# Altium integrated library Silicon Labs Isolation and Power.IntLib: 421 symbols (part 16 of 19)
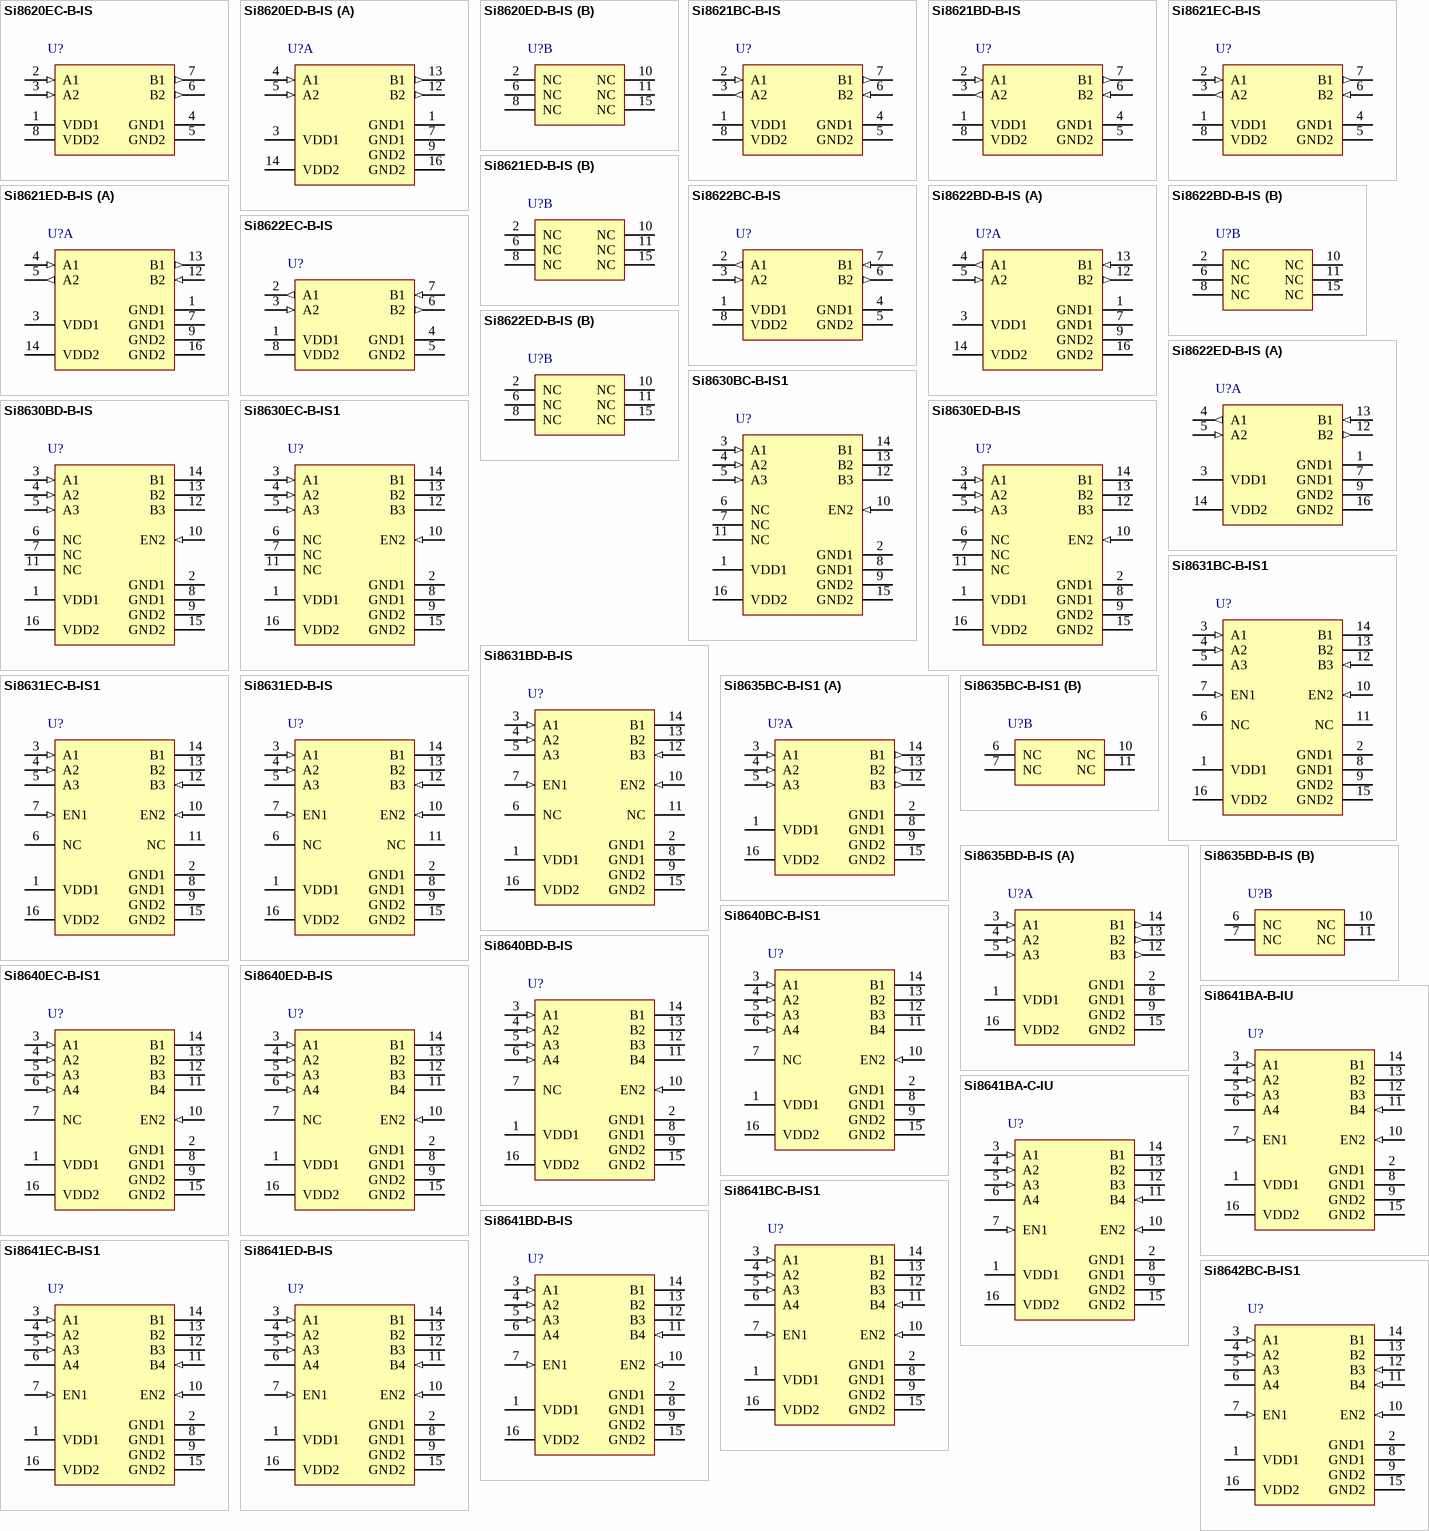
[diagram p29: symbols Si8620EC-B-IS to Si8642BC-B-IS1]

## Si8631BC-B-IS1
designator U?
Low-Power Triple-Channel Digital Isolator, 150 Mbps, 3.75 kVRMS Isolation Rating, -40 to 125 degC, 16-pin SOIC; Manufacturer: Silicon Labs; PartNumber: Si8631BC-B-IS1; 10kV surge: FALSE; AEC-Q100: TRUE; Channel Type: Unidirectional; Isolation Rating (kV): 3.75; Maximum Data Rate (Mbps): 150; Maximum Propagation Delay (ns): 13; Sub-Family: Isolators; DatasheetVersion: Rev. 1.3; PackageReference: SOIC-16-NB; PackageDescription: 16-Pin Small-Outline Integrated Circuit, Body 9.9 x 3.9 mm, Pitch 1.27 mm; Supplier 1: Digi-Key; Supplier Part Number 1: 336-2076-5-ND; Supplier 2: Mouser; Supplier Part Number 2: 634-SI8631BC-B-IS1; Enable Control: TRUE; Mounting Technology: Surface Mount; Code_JEDEC: MS-012; Code_IPC: J-STD-020; ComponentLink1Description: Manufacturer URL; ComponentLink1URL: http://www.silabs.com/; ComponentLink2Description: Datasheet; ComponentLink2URL: http://www.silabs.com/Support%20Documents/TechnicalDocs/Si863x.pdf; ComponentLink3Description: Package Specification; ComponentLink3URL: http://www.silabs.com/Support%20Documents/TechnicalDocs/si2401.pdf
footprint SLAB-SOIC-16-NB_N (SOIC, 16-Leads, Body 9.9x3.9mm, Pitch 1.27mm, IPC Medium Density)
footprint SLAB-SOIC-16-NB_L (SOIC, 16-Leads, Body 9.9x3.9mm, Pitch 1.27mm, IPC High Density)
footprint SLAB-SOIC-16-NB_M (SOIC, 16-Leads, Body 9.9x3.9mm, Pitch 1.27mm, IPC Low Density)
pins: 1 VDD1 (power) "Side 1 power supply.", 2 GND1 (power) "Side 1 ground.", 3 A1 (in) "Side 1 digital input.", 4 A2 (in) "Side 1 digital input.", 5 A3 (hiz) "Side 1 digital output.", 6 NC "No Connect.", 7 EN1 (in) "Side 1 active high enable", 8 GND1 (power) "Side 1 ground.", 9 GND2 (power) "Side 2 ground.", 10 EN2 (in) "Side 2 active high enable.", 11 NC "No Connect.", 12 B3 (in) "Side 2 digital input.", 13 B2 (hiz) "Side 2 digital output.", 14 B1 (hiz) "Side 2 digital output.", 15 GND2 (power) "Side 2 ground.", 16 VDD2 (power) "Side 2 power supply."

## Si8631BD-B-IS
designator U?
Low-Power Triple-Channel Digital Isolator, 150 Mbps, 5 kVRMS Isolation Rating, -40 to 125 degC, 16-pin SOIC; Manufacturer: Silicon Labs; PartNumber: Si8631BD-B-IS; 10kV surge: FALSE; AEC-Q100: TRUE; Channel Type: Unidirectional; Isolation Rating (kV): 5; Maximum Data Rate (Mbps): 150; Maximum Propagation Delay (ns): 13; Sub-Family: Isolators; DatasheetVersion: Rev. 1.3; PackageReference: SOIC-16-WB; PackageDescription: 16-Pin Wide Body Plastic Small Outline, Body 10.3 x 7.5 mm, Pitch 1.27 mm; Supplier 1: Digi-Key; Supplier Part Number 1: 336-2077-5-ND; Supplier 2: Mouser; Supplier Part Number 2: 634-SI8631BD-B-IS; Enable Control: TRUE; Mounting Technology: Surface Mount; Code_JEDEC: MS-013; ComponentLink1Description: Manufacturer URL; ComponentLink1URL: http://www.silabs.com/; ComponentLink2Description: Datasheet; ComponentLink2URL: http://www.silabs.com/Support%20Documents/TechnicalDocs/Si863x.pdf; ComponentLink3Description: Package Specification; ComponentLink3URL: https://www.silabs.com/Support%20Documents/TechnicalDocs/Si823x.pdf
footprint SLAB-SOIC-16-WB_N (SOIC, 16-Leads, Body 10.3x7.5mm, Pitch 1.27mm, IPC Medium Density)
footprint SLAB-SOIC-16-WB_L (SOIC, 16-Leads, Body 10.3x7.5mm, Pitch 1.27mm, IPC High Density)
footprint SLAB-SOIC-16-WB_M (SOIC, 16-Leads, Body 10.3x7.5mm, Pitch 1.27mm, IPC Low Density)
pins: 1 VDD1 (power) "Side 1 power supply.", 2 GND1 (power) "Side 1 ground.", 3 A1 (in) "Side 1 digital input.", 4 A2 (in) "Side 1 digital input.", 5 A3 (hiz) "Side 1 digital output.", 6 NC "No Connect.", 7 EN1 (in) "Side 1 active high enable", 8 GND1 (power) "Side 1 ground.", 9 GND2 (power) "Side 2 ground.", 10 EN2 (in) "Side 2 active high enable.", 11 NC "No Connect.", 12 B3 (in) "Side 2 digital input.", 13 B2 (hiz) "Side 2 digital output.", 14 B1 (hiz) "Side 2 digital output.", 15 GND2 (power) "Side 2 ground.", 16 VDD2 (power) "Side 2 power supply."

## Si8631EC-B-IS1
designator U?
Low-Power Triple-Channel Digital Isolator, 150 Mbps, 3.75 kVRMS Isolation Rating, -40 to 125 degC, 16-pin SOIC; Manufacturer: Silicon Labs; PartNumber: Si8631EC-B-IS1; 10kV surge: FALSE; AEC-Q100: TRUE; Channel Type: Unidirectional; Isolation Rating (kV): 3.75; Maximum Data Rate (Mbps): 150; Maximum Propagation Delay (ns): 13; Sub-Family: Isolators; DatasheetVersion: Rev. 1.3; PackageReference: SOIC-16-NB; PackageDescription: 16-Pin Small-Outline Integrated Circuit, Body 9.9 x 3.9 mm, Pitch 1.27 mm; Supplier 1: Digi-Key; Supplier Part Number 1: 336-2078-5-ND; Supplier 2: Mouser; Supplier Part Number 2: 634-SI8631EC-B-IS1; Enable Control: TRUE; Mounting Technology: Surface Mount; Code_JEDEC: MS-012; Code_IPC: J-STD-020; ComponentLink1Description: Manufacturer URL; ComponentLink1URL: http://www.silabs.com/; ComponentLink2Description: Datasheet; ComponentLink2URL: http://www.silabs.com/Support%20Documents/TechnicalDocs/Si863x.pdf; ComponentLink3Description: Package Specification; ComponentLink3URL: http://www.silabs.com/Support%20Documents/TechnicalDocs/si2401.pdf
footprint SLAB-SOIC-16-NB_N (SOIC, 16-Leads, Body 9.9x3.9mm, Pitch 1.27mm, IPC Medium Density)
footprint SLAB-SOIC-16-NB_L (SOIC, 16-Leads, Body 9.9x3.9mm, Pitch 1.27mm, IPC High Density)
footprint SLAB-SOIC-16-NB_M (SOIC, 16-Leads, Body 9.9x3.9mm, Pitch 1.27mm, IPC Low Density)
pins: 1 VDD1 (power) "Side 1 power supply.", 2 GND1 (power) "Side 1 ground.", 3 A1 (in) "Side 1 digital input.", 4 A2 (in) "Side 1 digital input.", 5 A3 (hiz) "Side 1 digital output.", 6 NC "No Connect.", 7 EN1 (in) "Side 1 active high enable", 8 GND1 (power) "Side 1 ground.", 9 GND2 (power) "Side 2 ground.", 10 EN2 (in) "Side 2 active high enable.", 11 NC "No Connect.", 12 B3 (in) "Side 2 digital input.", 13 B2 (hiz) "Side 2 digital output.", 14 B1 (hiz) "Side 2 digital output.", 15 GND2 (power) "Side 2 ground.", 16 VDD2 (power) "Side 2 power supply."

## Si8631ED-B-IS
designator U?
Low-Power Triple-Channel Digital Isolator, 150 Mbps, 5 kVRMS Isolation Rating, -40 to 125 degC, 16-pin SOIC; Manufacturer: Silicon Labs; PartNumber: Si8631ED-B-IS; 10kV surge: FALSE; AEC-Q100: TRUE; Channel Type: Unidirectional; Isolation Rating (kV): 5; Maximum Data Rate (Mbps): 150; Maximum Propagation Delay (ns): 13; Sub-Family: Isolators; DatasheetVersion: Rev. 1.3; PackageReference: SOIC-16-WB; PackageDescription: 16-Pin Wide Body Plastic Small Outline, Body 10.3 x 7.5 mm, Pitch 1.27 mm; Supplier 1: Digi-Key; Supplier Part Number 1: 336-2079-5-ND; Supplier 2: Mouser; Supplier Part Number 2: 634-SI8631ED-B-IS; Enable Control: TRUE; Mounting Technology: Surface Mount; Code_JEDEC: MS-013; ComponentLink1Description: Manufacturer URL; ComponentLink1URL: http://www.silabs.com/; ComponentLink2Description: Datasheet; ComponentLink2URL: http://www.silabs.com/Support%20Documents/TechnicalDocs/Si863x.pdf; ComponentLink3Description: Package Specification; ComponentLink3URL: https://www.silabs.com/Support%20Documents/TechnicalDocs/Si823x.pdf
footprint SLAB-SOIC-16-WB_N (SOIC, 16-Leads, Body 10.3x7.5mm, Pitch 1.27mm, IPC Medium Density)
footprint SLAB-SOIC-16-WB_L (SOIC, 16-Leads, Body 10.3x7.5mm, Pitch 1.27mm, IPC High Density)
footprint SLAB-SOIC-16-WB_M (SOIC, 16-Leads, Body 10.3x7.5mm, Pitch 1.27mm, IPC Low Density)
pins: 1 VDD1 (power) "Side 1 power supply.", 2 GND1 (power) "Side 1 ground.", 3 A1 (in) "Side 1 digital input.", 4 A2 (in) "Side 1 digital input.", 5 A3 (hiz) "Side 1 digital output.", 6 NC "No Connect.", 7 EN1 (in) "Side 1 active high enable", 8 GND1 (power) "Side 1 ground.", 9 GND2 (power) "Side 2 ground.", 10 EN2 (in) "Side 2 active high enable.", 11 NC "No Connect.", 12 B3 (in) "Side 2 digital input.", 13 B2 (hiz) "Side 2 digital output.", 14 B1 (hiz) "Side 2 digital output.", 15 GND2 (power) "Side 2 ground.", 16 VDD2 (power) "Side 2 power supply."

## Si8635BC-B-IS1
designator U?
Low-Power Triple-Channel Digital Isolator, 150 Mbps, 3.75 kVRMS Isolation Rating, -40 to 125 degC, 16-pin SOIC; Manufacturer: Silicon Labs; PartNumber: Si8635BC-B-IS1; 10kV surge: FALSE; AEC-Q100: TRUE; Channel Type: Unidirectional; Isolation Rating (kV): 3.75; Maximum Data Rate (Mbps): 150; Maximum Propagation Delay (ns): 13; Sub-Family: Isolators; DatasheetVersion: Rev. 1.3; PackageReference: SOIC-16-NB; PackageDescription: 16-Pin Small-Outline Integrated Circuit, Body 9.9 x 3.9 mm, Pitch 1.27 mm; Supplier 1: Digi-Key; Supplier Part Number 1: 336-2080-5-ND; Supplier 2: Mouser; Supplier Part Number 2: 634-SI8635BC-B-IS1; Enable Control: TRUE; Mounting Technology: Surface Mount; Code_JEDEC: MS-012; Code_IPC: J-STD-020; ComponentLink1Description: Manufacturer URL; ComponentLink1URL: http://www.silabs.com/; ComponentLink2Description: Datasheet; ComponentLink2URL: http://www.silabs.com/Support%20Documents/TechnicalDocs/Si863x.pdf; ComponentLink3Description: Package Specification; ComponentLink3URL: http://www.silabs.com/Support%20Documents/TechnicalDocs/si2401.pdf
footprint SLAB-SOIC-16-NB_N (SOIC, 16-Leads, Body 9.9x3.9mm, Pitch 1.27mm, IPC Medium Density)
footprint SLAB-SOIC-16-NB_L (SOIC, 16-Leads, Body 9.9x3.9mm, Pitch 1.27mm, IPC High Density)
footprint SLAB-SOIC-16-NB_M (SOIC, 16-Leads, Body 9.9x3.9mm, Pitch 1.27mm, IPC Low Density)
part A pins: 1 VDD1 (power) "Side 1 power supply.", 2 GND1 (power) "Side 1 ground.", 3 A1 (in) "Side 1 digital input.", 4 A2 (in) "Side 1 digital input.", 5 A3 (in) "Side 1 digital input.", 8 GND1 (power) "Side 1 ground.", 9 GND2 (power) "Side 2 ground.", 12 B3 (out) "Side 2 digital output.", 13 B2 (out) "Side 2 digital output.", 14 B1 (out) "Side 2 digital output.", 15 GND2 (power) "Side 2 ground.", 16 VDD2 (power) "Side 2 power supply."
part B pins: 6 NC "No Connect.", 7 NC "No Connect.", 10 NC "No Connect.", 11 NC "No Connect."

## Si8635BD-B-IS
designator U?
Low-Power Triple-Channel Digital Isolator, 150 Mbps, 5 kVRMS Isolation Rating, -40 to 125 degC, 16-pin SOIC; Manufacturer: Silicon Labs; PartNumber: Si8635BD-B-IS; 10kV surge: FALSE; AEC-Q100: TRUE; Channel Type: Unidirectional; Isolation Rating (kV): 5; Maximum Data Rate (Mbps): 150; Maximum Propagation Delay (ns): 13; Sub-Family: Isolators; DatasheetVersion: Rev. 1.3; PackageReference: SOIC-16-WB; PackageDescription: 16-Pin Wide Body Plastic Small Outline, Body 10.3 x 7.5 mm, Pitch 1.27 mm; Supplier 1: Digi-Key; Supplier Part Number 1: 336-2081-5-ND; Supplier 2: Mouser; Supplier Part Number 2: 634-SI8635BD-B-IS; Enable Control: TRUE; Mounting Technology: Surface Mount; Code_JEDEC: MS-013; ComponentLink1Description: Manufacturer URL; ComponentLink1URL: http://www.silabs.com/; ComponentLink2Description: Datasheet; ComponentLink2URL: http://www.silabs.com/Support%20Documents/TechnicalDocs/Si863x.pdf; ComponentLink3Description: Package Specification; ComponentLink3URL: https://www.silabs.com/Support%20Documents/TechnicalDocs/Si823x.pdf
footprint SLAB-SOIC-16-WB_N (SOIC, 16-Leads, Body 10.3x7.5mm, Pitch 1.27mm, IPC Medium Density)
footprint SLAB-SOIC-16-WB_L (SOIC, 16-Leads, Body 10.3x7.5mm, Pitch 1.27mm, IPC High Density)
footprint SLAB-SOIC-16-WB_M (SOIC, 16-Leads, Body 10.3x7.5mm, Pitch 1.27mm, IPC Low Density)
part A pins: 1 VDD1 (power) "Side 1 power supply.", 2 GND1 (power) "Side 1 ground.", 3 A1 (in) "Side 1 digital input.", 4 A2 (in) "Side 1 digital input.", 5 A3 (in) "Side 1 digital input.", 8 GND1 (power) "Side 1 ground.", 9 GND2 (power) "Side 2 ground.", 12 B3 (out) "Side 2 digital output.", 13 B2 (out) "Side 2 digital output.", 14 B1 (out) "Side 2 digital output.", 15 GND2 (power) "Side 2 ground.", 16 VDD2 (power) "Side 2 power supply."
part B pins: 6 NC "No Connect.", 7 NC "No Connect.", 10 NC "No Connect.", 11 NC "No Connect."

## Si8640BC-B-IS1
designator U?
Low-Power Quad-Channel Digital Isolator, 150 Mbps, 3.75 kVRMS Isolation Rating, -40 to 125 degC, 16-pin SOIC; Manufacturer: Silicon Labs; PartNumber: Si8640BC-B-IS1; 10kV surge: FALSE; Channel Type: Unidirectional; Enable Control: TRUE; Isolation Rating (kV): 3.75; Maximum Data Rate (Mbps): 150; Maximum Propagation Delay (ns): 13; Sub-Family: Isolators; DatasheetVersion: Rev. 1.5; PackageReference: SOIC-16-NB; PackageDescription: 16-Pin Small-Outline Integrated Circuit, Body 9.9 x 3.9 mm, Pitch 1.27 mm; Supplier 1: Digi-Key; Supplier Part Number 1: 336-2082-5-ND; Supplier 2: Mouser; Supplier Part Number 2: 634-SI8640BC-B-IS1; AEC-Q100: FALSE; Mounting Technology: Surface Mount; Code_JEDEC: MS-012; Code_IPC: J-STD-020; ComponentLink1Description: Manufacturer URL; ComponentLink1URL: http://www.silabs.com/; ComponentLink2Description: Datasheet; ComponentLink2URL: http://www.silabs.com/Support%20Documents/TechnicalDocs/Si864x.pdf; ComponentLink3Description: Package Specification; ComponentLink3URL: http://www.silabs.com/Support%20Documents/TechnicalDocs/si2401.pdf
footprint SLAB-SOIC-16-NB_N (SOIC, 16-Leads, Body 9.9x3.9mm, Pitch 1.27mm, IPC Medium Density)
footprint SLAB-SOIC-16-NB_L (SOIC, 16-Leads, Body 9.9x3.9mm, Pitch 1.27mm, IPC High Density)
footprint SLAB-SOIC-16-NB_M (SOIC, 16-Leads, Body 9.9x3.9mm, Pitch 1.27mm, IPC Low Density)
pins: 1 VDD1 (power) "Side 1 power supply.", 2 GND1 (power) "Side 1 ground.", 3 A1 (in) "Side 1 digital input.", 4 A2 (in) "Side 1 digital input.", 5 A3 (in) "Side 1 digital input.", 6 A4 (in) "Side 1 digital input.", 7 NC, 8 GND1 (power) "Side 1 ground.", 9 GND2 (power) "Side 2 ground.", 10 EN2 (in) "Side 2 active high enable.", 11 B4 (hiz) "Side 2 digital output.", 12 B3 (hiz) "Side 2 digital output.", 13 B2 (hiz) "Side 2 digital output.", 14 B1 (hiz) "Side 2 digital output.", 15 GND2 (power) "Side 2 ground.", 16 VDD2 (power) "Side 2 power supply."

## Si8640BD-B-IS
designator U?
Low-Power Quad-Channel Digital Isolator, 150 Mbps, 5 kVRMS Isolation Rating, -40 to 125 degC, 16-pin SOIC; Manufacturer: Silicon Labs; PartNumber: Si8640BD-B-IS; 10kV surge: FALSE; Channel Type: Unidirectional; Enable Control: TRUE; Isolation Rating (kV): 5; Maximum Data Rate (Mbps): 150; Maximum Propagation Delay (ns): 13; Sub-Family: Isolators; DatasheetVersion: Rev. 1.5; PackageReference: SOIC-16-WB; PackageDescription: 16-Pin Wide Body Plastic Small Outline, Body 10.3 x 7.5 mm, Pitch 1.27 mm; Supplier 1: Digi-Key; Supplier Part Number 1: 336-2083-5-ND; Supplier 2: Mouser; Supplier Part Number 2: 634-SI8640BD-B-IS; AEC-Q100: FALSE; Mounting Technology: Surface Mount; Code_JEDEC: MS-013; ComponentLink1Description: Manufacturer URL; ComponentLink1URL: http://www.silabs.com/; ComponentLink2Description: Datasheet; ComponentLink2URL: http://www.silabs.com/Support%20Documents/TechnicalDocs/Si864x.pdf; ComponentLink3Description: Package Specification; ComponentLink3URL: https://www.silabs.com/Support%20Documents/TechnicalDocs/Si823x.pdf
footprint SLAB-SOIC-16-WB_N (SOIC, 16-Leads, Body 10.3x7.5mm, Pitch 1.27mm, IPC Medium Density)
footprint SLAB-SOIC-16-WB_L (SOIC, 16-Leads, Body 10.3x7.5mm, Pitch 1.27mm, IPC High Density)
footprint SLAB-SOIC-16-WB_M (SOIC, 16-Leads, Body 10.3x7.5mm, Pitch 1.27mm, IPC Low Density)
pins: 1 VDD1 (power) "Side 1 power supply.", 2 GND1 (power) "Side 1 ground.", 3 A1 (in) "Side 1 digital input.", 4 A2 (in) "Side 1 digital input.", 5 A3 (in) "Side 1 digital input.", 6 A4 (in) "Side 1 digital input.", 7 NC, 8 GND1 (power) "Side 1 ground.", 9 GND2 (power) "Side 2 ground.", 10 EN2 (in) "Side 2 active high enable.", 11 B4 (hiz) "Side 2 digital output.", 12 B3 (hiz) "Side 2 digital output.", 13 B2 (hiz) "Side 2 digital output.", 14 B1 (hiz) "Side 2 digital output.", 15 GND2 (power) "Side 2 ground.", 16 VDD2 (power) "Side 2 power supply."

## Si8640EC-B-IS1
designator U?
Low-Power Quad-Channel Digital Isolator, 150 Mbps, 3.75 kVRMS Isolation Rating, -40 to 125 degC, 16-pin SOIC; Manufacturer: Silicon Labs; PartNumber: Si8640EC-B-IS1; 10kV surge: FALSE; AEC-Q100: TRUE; Channel Type: Unidirectional; Isolation Rating (kV): 3.75; Maximum Data Rate (Mbps): 150; Maximum Propagation Delay (ns): 13; Sub-Family: Isolators; DatasheetVersion: Rev. 1.5; PackageReference: SOIC-16-NB; PackageDescription: 16-Pin Small-Outline Integrated Circuit, Body 9.9 x 3.9 mm, Pitch 1.27 mm; Supplier 1: Digi-Key; Supplier Part Number 1: 336-2084-5-ND; Supplier 2: Mouser; Supplier Part Number 2: 634-SI8640EC-B-IS1; Enable Control: TRUE; Mounting Technology: Surface Mount; Code_JEDEC: MS-012; Code_IPC: J-STD-020; ComponentLink1Description: Manufacturer URL; ComponentLink1URL: http://www.silabs.com/; ComponentLink2Description: Datasheet; ComponentLink2URL: http://www.silabs.com/Support%20Documents/TechnicalDocs/Si864x.pdf; ComponentLink3Description: Package Specification; ComponentLink3URL: http://www.silabs.com/Support%20Documents/TechnicalDocs/si2401.pdf
footprint SLAB-SOIC-16-NB_N (SOIC, 16-Leads, Body 9.9x3.9mm, Pitch 1.27mm, IPC Medium Density)
footprint SLAB-SOIC-16-NB_L (SOIC, 16-Leads, Body 9.9x3.9mm, Pitch 1.27mm, IPC High Density)
footprint SLAB-SOIC-16-NB_M (SOIC, 16-Leads, Body 9.9x3.9mm, Pitch 1.27mm, IPC Low Density)
pins: 1 VDD1 (power) "Side 1 power supply.", 2 GND1 (power) "Side 1 ground.", 3 A1 (in) "Side 1 digital input.", 4 A2 (in) "Side 1 digital input.", 5 A3 (in) "Side 1 digital input.", 6 A4 (in) "Side 1 digital input.", 7 NC, 8 GND1 (power) "Side 1 ground.", 9 GND2 (power) "Side 2 ground.", 10 EN2 (in) "Side 2 active high enable.", 11 B4 (hiz) "Side 2 digital output.", 12 B3 (hiz) "Side 2 digital output.", 13 B2 (hiz) "Side 2 digital output.", 14 B1 (hiz) "Side 2 digital output.", 15 GND2 (power) "Side 2 ground.", 16 VDD2 (power) "Side 2 power supply."

## Si8640ED-B-IS
designator U?
Low-Power Quad-Channel Digital Isolator, 150 Mbps, 5 kVRMS Isolation Rating, -40 to 125 degC, 16-pin SOIC; Manufacturer: Silicon Labs; PartNumber: Si8640ED-B-IS; 10kV surge: FALSE; AEC-Q100: TRUE; Channel Type: Unidirectional; Isolation Rating (kV): 5; Maximum Data Rate (Mbps): 150; Maximum Propagation Delay (ns): 13; Sub-Family: Isolators; DatasheetVersion: Rev. 1.5; PackageReference: SOIC-16-WB; PackageDescription: 16-Pin Wide Body Plastic Small Outline, Body 10.3 x 7.5 mm, Pitch 1.27 mm; Supplier 1: Digi-Key; Supplier Part Number 1: 336-2085-5-ND; Supplier 2: Mouser; Supplier Part Number 2: 634-SI8640ED-B-IS; Enable Control: TRUE; Mounting Technology: Surface Mount; Code_JEDEC: MS-013; ComponentLink1Description: Manufacturer URL; ComponentLink1URL: http://www.silabs.com/; ComponentLink2Description: Datasheet; ComponentLink2URL: http://www.silabs.com/Support%20Documents/TechnicalDocs/Si864x.pdf; ComponentLink3Description: Package Specification; ComponentLink3URL: https://www.silabs.com/Support%20Documents/TechnicalDocs/Si823x.pdf
footprint SLAB-SOIC-16-WB_N (SOIC, 16-Leads, Body 10.3x7.5mm, Pitch 1.27mm, IPC Medium Density)
footprint SLAB-SOIC-16-WB_L (SOIC, 16-Leads, Body 10.3x7.5mm, Pitch 1.27mm, IPC High Density)
footprint SLAB-SOIC-16-WB_M (SOIC, 16-Leads, Body 10.3x7.5mm, Pitch 1.27mm, IPC Low Density)
pins: 1 VDD1 (power) "Side 1 power supply.", 2 GND1 (power) "Side 1 ground.", 3 A1 (in) "Side 1 digital input.", 4 A2 (in) "Side 1 digital input.", 5 A3 (in) "Side 1 digital input.", 6 A4 (in) "Side 1 digital input.", 7 NC, 8 GND1 (power) "Side 1 ground.", 9 GND2 (power) "Side 2 ground.", 10 EN2 (in) "Side 2 active high enable.", 11 B4 (hiz) "Side 2 digital output.", 12 B3 (hiz) "Side 2 digital output.", 13 B2 (hiz) "Side 2 digital output.", 14 B1 (hiz) "Side 2 digital output.", 15 GND2 (power) "Side 2 ground.", 16 VDD2 (power) "Side 2 power supply."

## Si8641BA-B-IU
designator U?
Low-Power Quad-Channel Digital Isolator, 150 Mbps, 1 kVRMS Isolation Rating, -40 to 125 degC, 16-pin SOP; Manufacturer: Silicon Labs; PartNumber: Si8641BA-B-IU; 10kV surge: FALSE; Channel Type: Unidirectional; Enable Control: TRUE; Isolation Rating (kV): 1; Maximum Data Rate (Mbps): 150; Maximum Propagation Delay (ns): 13; Sub-Family: Isolators; DatasheetVersion: Rev. 1.5; PackageReference: QSOP-16; PackageDescription: 16-Pin Quarter-Size Small Outline Package, Body 4.89 x 3.9 mm, Pitch 0.635 mm; Supplier 1: Digi-Key; Supplier Part Number 1: 336-2086-5-ND; Supplier 2: Mouser; Supplier Part Number 2: 634-SI8641BA-B-IU; AEC-Q100: FALSE; Mounting Technology: Surface Mount; Code_JEDEC: MO-137; Code_IPC: J-STD-020D; ComponentLink1Description: Manufacturer URL; ComponentLink1URL: http://www.silabs.com/; ComponentLink2Description: Datasheet; ComponentLink2URL: http://www.silabs.com/Support%20Documents/TechnicalDocs/Si864x.pdf; ComponentLink3Description: Package Specification; ComponentLink3URL: http://www.silabs.com/Support%20Documents/TechnicalDocs/Si864x.pdf
footprint SLAB-QSOP-16_N (SOP, 16-Leads, Body 4.9x3.9mm, Pitch 0.635mm, IPC Medium Density)
footprint SLAB-QSOP-16_L (SOP, 16-Leads, Body 4.9x3.9mm, Pitch 0.635mm, IPC High Density)
footprint SLAB-QSOP-16_M (SOP, 16-Leads, Body 4.9x3.9mm, Pitch 0.635mm, IPC Low Density)
pins: 1 VDD1 (power) "Side 1 power supply.", 2 GND1 (power) "Side 1 ground.", 3 A1 (in) "Side 1 digital input.", 4 A2 (in) "Side 1 digital input.", 5 A3 (in) "Side 1 digital input.", 6 A4 (hiz) "Side 1 digital output.", 7 EN1 (in) "Side 1 active high enable.", 8 GND1 (power) "Side 1 ground.", 9 GND2 (power) "Side 2 ground.", 10 EN2 (in) "Side 2 active high enable.", 11 B4 (in) "Side 2 digital input.", 12 B3 (hiz) "Side 2 digital output.", 13 B2 (hiz) "Side 2 digital output.", 14 B1 (hiz) "Side 2 digital output.", 15 GND2 (power) "Side 2 ground.", 16 VDD2 (power) "Side 2 power supply."

## Si8641BA-C-IU
designator U?
Low-Power Quad-Channel Digital Isolator, 150 Mbps, 1 kVRMS Isolation Rating, -40 to 125 degC, 16-pin SOP; Manufacturer: Silicon Labs; PartNumber: Si8641BA-C-IU; Note: 0; 10kV surge: FALSE; Channel Type: Unidirectional; Enable Control: TRUE; Isolation Rating (kV): 1; Maximum Data Rate (Mbps): 150; Maximum Propagation Delay (ns): 13; Sub-Family: Isolators; DatasheetVersion: Rev. 1.5; PackageReference: QSOP-16; PackageDescription: 16-Pin Quarter-Size Small Outline Package, Body 4.89 x 3.9 mm, Pitch 0.635 mm; AEC-Q100: FALSE; Mounting Technology: Surface Mount; Code_JEDEC: MO-137; Code_IPC: J-STD-020D; ComponentLink1Description: Manufacturer URL; ComponentLink1URL: http://www.silabs.com/; ComponentLink2Description: Datasheet; ComponentLink2URL: http://www.silabs.com/Support%20Documents/TechnicalDocs/Si864x.pdf; ComponentLink3Description: Package Specification; ComponentLink3URL: http://www.silabs.com/Support%20Documents/TechnicalDocs/Si864x.pdf
footprint SLAB-QSOP-16_N (SOP, 16-Leads, Body 4.9x3.9mm, Pitch 0.635mm, IPC Medium Density)
footprint SLAB-QSOP-16_L (SOP, 16-Leads, Body 4.9x3.9mm, Pitch 0.635mm, IPC High Density)
footprint SLAB-QSOP-16_M (SOP, 16-Leads, Body 4.9x3.9mm, Pitch 0.635mm, IPC Low Density)
pins: 1 VDD1 (power) "Side 1 power supply.", 2 GND1 (power) "Side 1 ground.", 3 A1 (in) "Side 1 digital input.", 4 A2 (in) "Side 1 digital input.", 5 A3 (in) "Side 1 digital input.", 6 A4 (hiz) "Side 1 digital output.", 7 EN1 (in) "Side 1 active high enable.", 8 GND1 (power) "Side 1 ground.", 9 GND2 (power) "Side 2 ground.", 10 EN2 (in) "Side 2 active high enable.", 11 B4 (in) "Side 2 digital input.", 12 B3 (hiz) "Side 2 digital output.", 13 B2 (hiz) "Side 2 digital output.", 14 B1 (hiz) "Side 2 digital output.", 15 GND2 (power) "Side 2 ground.", 16 VDD2 (power) "Side 2 power supply."

## Si8641BC-B-IS1
designator U?
Low-Power Quad-Channel Digital Isolator, 150 Mbps, 3.75 kVRMS Isolation Rating, -40 to 125 degC, 16-pin SOIC; Manufacturer: Silicon Labs; PartNumber: Si8641BC-B-IS1; 10kV surge: FALSE; Channel Type: Unidirectional; Enable Control: TRUE; Isolation Rating (kV): 3.75; Maximum Data Rate (Mbps): 150; Maximum Propagation Delay (ns): 13; Sub-Family: Isolators; DatasheetVersion: Rev. 1.5; PackageReference: SOIC-16-NB; PackageDescription: 16-Pin Small-Outline Integrated Circuit, Body 9.9 x 3.9 mm, Pitch 1.27 mm; Supplier 1: Digi-Key; Supplier Part Number 1: 336-2087-5-ND; Supplier 2: Mouser; Supplier Part Number 2: 634-SI8641BC-B-IS1; AEC-Q100: FALSE; Mounting Technology: Surface Mount; Code_JEDEC: MS-012; Code_IPC: J-STD-020; ComponentLink1Description: Manufacturer URL; ComponentLink1URL: http://www.silabs.com/; ComponentLink2Description: Datasheet; ComponentLink2URL: http://www.silabs.com/Support%20Documents/TechnicalDocs/Si864x.pdf; ComponentLink3Description: Package Specification; ComponentLink3URL: http://www.silabs.com/Support%20Documents/TechnicalDocs/si2401.pdf
footprint SLAB-SOIC-16-NB_N (SOIC, 16-Leads, Body 9.9x3.9mm, Pitch 1.27mm, IPC Medium Density)
footprint SLAB-SOIC-16-NB_L (SOIC, 16-Leads, Body 9.9x3.9mm, Pitch 1.27mm, IPC High Density)
footprint SLAB-SOIC-16-NB_M (SOIC, 16-Leads, Body 9.9x3.9mm, Pitch 1.27mm, IPC Low Density)
pins: 1 VDD1 (power) "Side 1 power supply.", 2 GND1 (power) "Side 1 ground.", 3 A1 (in) "Side 1 digital input.", 4 A2 (in) "Side 1 digital input.", 5 A3 (in) "Side 1 digital input.", 6 A4 (hiz) "Side 1 digital output.", 7 EN1 (in) "Side 1 active high enable.", 8 GND1 (power) "Side 1 ground.", 9 GND2 (power) "Side 2 ground.", 10 EN2 (in) "Side 2 active high enable.", 11 B4 (in) "Side 2 digital input.", 12 B3 (hiz) "Side 2 digital output.", 13 B2 (hiz) "Side 2 digital output.", 14 B1 (hiz) "Side 2 digital output.", 15 GND2 (power) "Side 2 ground.", 16 VDD2 (power) "Side 2 power supply."

## Si8641BD-B-IS
designator U?
Low-Power Quad-Channel Digital Isolator, 150 Mbps, 5 kVRMS Isolation Rating, -40 to 125 degC, 16-pin SOIC; Manufacturer: Silicon Labs; PartNumber: Si8641BD-B-IS; 10kV surge: FALSE; Channel Type: Unidirectional; Enable Control: TRUE; Isolation Rating (kV): 5; Maximum Data Rate (Mbps): 150; Maximum Propagation Delay (ns): 13; Sub-Family: Isolators; DatasheetVersion: Rev. 1.5; PackageReference: SOIC-16-WB; PackageDescription: 16-Pin Wide Body Plastic Small Outline, Body 10.3 x 7.5 mm, Pitch 1.27 mm; Supplier 1: Digi-Key; Supplier Part Number 1: 336-2088-5-ND; Supplier 2: Mouser; Supplier Part Number 2: 634-SI8641BD-B-IS; AEC-Q100: FALSE; Mounting Technology: Surface Mount; Code_JEDEC: MS-013; ComponentLink1Description: Manufacturer URL; ComponentLink1URL: http://www.silabs.com/; ComponentLink2Description: Datasheet; ComponentLink2URL: http://www.silabs.com/Support%20Documents/TechnicalDocs/Si864x.pdf; ComponentLink3Description: Package Specification; ComponentLink3URL: https://www.silabs.com/Support%20Documents/TechnicalDocs/Si823x.pdf
footprint SLAB-SOIC-16-WB_N (SOIC, 16-Leads, Body 10.3x7.5mm, Pitch 1.27mm, IPC Medium Density)
footprint SLAB-SOIC-16-WB_L (SOIC, 16-Leads, Body 10.3x7.5mm, Pitch 1.27mm, IPC High Density)
footprint SLAB-SOIC-16-WB_M (SOIC, 16-Leads, Body 10.3x7.5mm, Pitch 1.27mm, IPC Low Density)
pins: 1 VDD1 (power) "Side 1 power supply.", 2 GND1 (power) "Side 1 ground.", 3 A1 (in) "Side 1 digital input.", 4 A2 (in) "Side 1 digital input.", 5 A3 (in) "Side 1 digital input.", 6 A4 (hiz) "Side 1 digital output.", 7 EN1 (in) "Side 1 active high enable.", 8 GND1 (power) "Side 1 ground.", 9 GND2 (power) "Side 2 ground.", 10 EN2 (in) "Side 2 active high enable.", 11 B4 (in) "Side 2 digital input.", 12 B3 (hiz) "Side 2 digital output.", 13 B2 (hiz) "Side 2 digital output.", 14 B1 (hiz) "Side 2 digital output.", 15 GND2 (power) "Side 2 ground.", 16 VDD2 (power) "Side 2 power supply."

## Si8641EC-B-IS1
designator U?
Low-Power Quad-Channel Digital Isolator, 150 Mbps, 3.75 kVRMS Isolation Rating, -40 to 125 degC, 16-pin SOIC; Manufacturer: Silicon Labs; PartNumber: Si8641EC-B-IS1; 10kV surge: FALSE; AEC-Q100: TRUE; Channel Type: Unidirectional; Isolation Rating (kV): 3.75; Maximum Data Rate (Mbps): 150; Maximum Propagation Delay (ns): 13; Sub-Family: Isolators; DatasheetVersion: Rev. 1.5; PackageReference: SOIC-16-NB; PackageDescription: 16-Pin Small-Outline Integrated Circuit, Body 9.9 x 3.9 mm, Pitch 1.27 mm; Supplier 1: Digi-Key; Supplier Part Number 1: 336-2089-5-ND; Supplier 2: Mouser; Supplier Part Number 2: 634-SI8641EC-B-IS1; Enable Control: TRUE; Mounting Technology: Surface Mount; Code_JEDEC: MS-012; Code_IPC: J-STD-020; ComponentLink1Description: Manufacturer URL; ComponentLink1URL: http://www.silabs.com/; ComponentLink2Description: Datasheet; ComponentLink2URL: http://www.silabs.com/Support%20Documents/TechnicalDocs/Si864x.pdf; ComponentLink3Description: Package Specification; ComponentLink3URL: http://www.silabs.com/Support%20Documents/TechnicalDocs/si2401.pdf
footprint SLAB-SOIC-16-NB_N (SOIC, 16-Leads, Body 9.9x3.9mm, Pitch 1.27mm, IPC Medium Density)
footprint SLAB-SOIC-16-NB_L (SOIC, 16-Leads, Body 9.9x3.9mm, Pitch 1.27mm, IPC High Density)
footprint SLAB-SOIC-16-NB_M (SOIC, 16-Leads, Body 9.9x3.9mm, Pitch 1.27mm, IPC Low Density)
pins: 1 VDD1 (power) "Side 1 power supply.", 2 GND1 (power) "Side 1 ground.", 3 A1 (in) "Side 1 digital input.", 4 A2 (in) "Side 1 digital input.", 5 A3 (in) "Side 1 digital input.", 6 A4 (hiz) "Side 1 digital output.", 7 EN1 (in) "Side 1 active high enable.", 8 GND1 (power) "Side 1 ground.", 9 GND2 (power) "Side 2 ground.", 10 EN2 (in) "Side 2 active high enable.", 11 B4 (in) "Side 2 digital input.", 12 B3 (hiz) "Side 2 digital output.", 13 B2 (hiz) "Side 2 digital output.", 14 B1 (hiz) "Side 2 digital output.", 15 GND2 (power) "Side 2 ground.", 16 VDD2 (power) "Side 2 power supply."

## Si8641ED-B-IS
designator U?
Low-Power Quad-Channel Digital Isolator, 150 Mbps, 5 kVRMS Isolation Rating, -40 to 125 degC, 16-pin SOIC; Manufacturer: Silicon Labs; PartNumber: Si8641ED-B-IS; 10kV surge: FALSE; AEC-Q100: TRUE; Channel Type: Unidirectional; Isolation Rating (kV): 5; Maximum Data Rate (Mbps): 150; Maximum Propagation Delay (ns): 13; Sub-Family: Isolators; DatasheetVersion: Rev. 1.5; PackageReference: SOIC-16-WB; PackageDescription: 16-Pin Wide Body Plastic Small Outline, Body 10.3 x 7.5 mm, Pitch 1.27 mm; Supplier 1: Digi-Key; Supplier Part Number 1: 336-2090-5-ND; Supplier 2: Mouser; Supplier Part Number 2: 634-SI8641ED-B-IS; Enable Control: TRUE; Mounting Technology: Surface Mount; Code_JEDEC: MS-013; ComponentLink1Description: Manufacturer URL; ComponentLink1URL: http://www.silabs.com/; ComponentLink2Description: Datasheet; ComponentLink2URL: http://www.silabs.com/Support%20Documents/TechnicalDocs/Si864x.pdf; ComponentLink3Description: Package Specification; ComponentLink3URL: https://www.silabs.com/Support%20Documents/TechnicalDocs/Si823x.pdf
footprint SLAB-SOIC-16-WB_N (SOIC, 16-Leads, Body 10.3x7.5mm, Pitch 1.27mm, IPC Medium Density)
footprint SLAB-SOIC-16-WB_L (SOIC, 16-Leads, Body 10.3x7.5mm, Pitch 1.27mm, IPC High Density)
footprint SLAB-SOIC-16-WB_M (SOIC, 16-Leads, Body 10.3x7.5mm, Pitch 1.27mm, IPC Low Density)
pins: 1 VDD1 (power) "Side 1 power supply.", 2 GND1 (power) "Side 1 ground.", 3 A1 (in) "Side 1 digital input.", 4 A2 (in) "Side 1 digital input.", 5 A3 (in) "Side 1 digital input.", 6 A4 (hiz) "Side 1 digital output.", 7 EN1 (in) "Side 1 active high enable.", 8 GND1 (power) "Side 1 ground.", 9 GND2 (power) "Side 2 ground.", 10 EN2 (in) "Side 2 active high enable.", 11 B4 (in) "Side 2 digital input.", 12 B3 (hiz) "Side 2 digital output.", 13 B2 (hiz) "Side 2 digital output.", 14 B1 (hiz) "Side 2 digital output.", 15 GND2 (power) "Side 2 ground.", 16 VDD2 (power) "Side 2 power supply."

## Si8642BC-B-IS1
designator U?
Low-Power Quad-Channel Digital Isolator, 150 Mbps, 3.75 kVRMS Isolation Rating, -40 to 125 degC, 16-pin SOIC; Manufacturer: Silicon Labs; PartNumber: Si8642BC-B-IS1; 10kV surge: FALSE; Channel Type: Unidirectional; Enable Control: TRUE; Isolation Rating (kV): 3.75; Maximum Data Rate (Mbps): 150; Maximum Propagation Delay (ns): 13; Sub-Family: Isolators; DatasheetVersion: Rev. 1.5; PackageReference: SOIC-16-NB; PackageDescription: 16-Pin Small-Outline Integrated Circuit, Body 9.9 x 3.9 mm, Pitch 1.27 mm; Supplier 1: Digi-Key; Supplier Part Number 1: 336-2092-5-ND; Supplier 2: Mouser; Supplier Part Number 2: 634-SI8642BC-B-IS1; AEC-Q100: FALSE; Mounting Technology: Surface Mount; Code_JEDEC: MS-012; Code_IPC: J-STD-020; ComponentLink1Description: Manufacturer URL; ComponentLink1URL: http://www.silabs.com/; ComponentLink2Description: Datasheet; ComponentLink2URL: http://www.silabs.com/Support%20Documents/TechnicalDocs/Si864x.pdf; ComponentLink3Description: Package Specification; ComponentLink3URL: http://www.silabs.com/Support%20Documents/TechnicalDocs/si2401.pdf
footprint SLAB-SOIC-16-NB_N (SOIC, 16-Leads, Body 9.9x3.9mm, Pitch 1.27mm, IPC Medium Density)
footprint SLAB-SOIC-16-NB_L (SOIC, 16-Leads, Body 9.9x3.9mm, Pitch 1.27mm, IPC High Density)
footprint SLAB-SOIC-16-NB_M (SOIC, 16-Leads, Body 9.9x3.9mm, Pitch 1.27mm, IPC Low Density)
pins: 1 VDD1 (power) "Side 1 power supply.", 2 GND1 (power) "Side 1 ground.", 3 A1 (in) "Side 1 digital input.", 4 A2 (in) "Side 1 digital input.", 5 A3 (hiz) "Side 1 digital output.", 6 A4 (hiz) "Side 1 digital output.", 7 EN1 (in) "Side 1 active high enable.", 8 GND1 (power) "Side 1 ground.", 9 GND2 (power) "Side 2 ground.", 10 EN2 (in) "Side 2 active high enable.", 11 B4 (in) "Side 2 digital input.", 12 B3 (in) "Side 2 digital input.", 13 B2 (hiz) "Side 2 digital output.", 14 B1 (hiz) "Side 2 digital output.", 15 GND2 (power) "Side 2 ground.", 16 VDD2 (power) "Side 2 power supply."

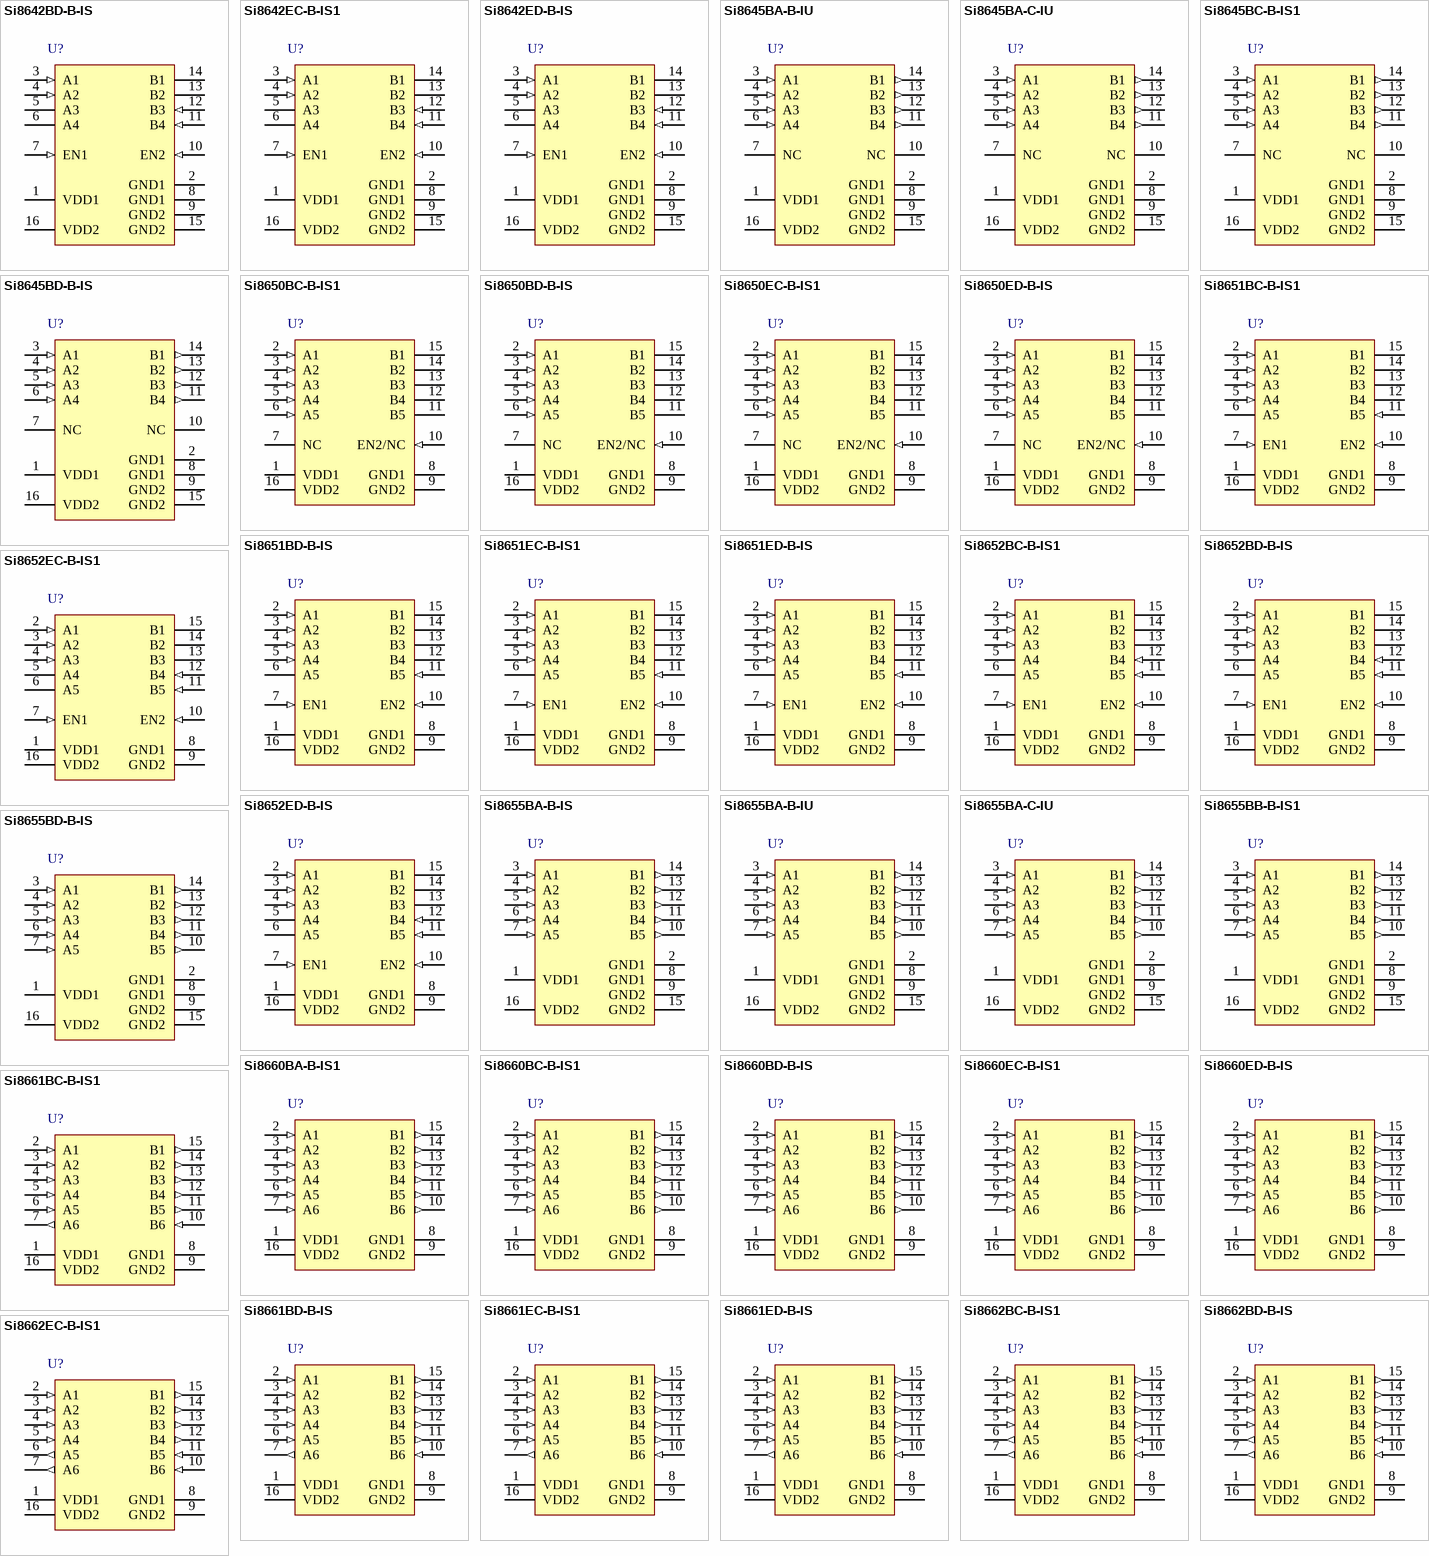
[diagram p12: symbols Si8642BD-B-IS to Si8662EC-B-IS1]

## Si8642BD-B-IS
designator U?
Low-Power Quad-Channel Digital Isolator, 150 Mbps, 5 kVRMS Isolation Rating, -40 to 125 degC, 16-pin SOIC; Manufacturer: Silicon Labs; PartNumber: Si8642BD-B-IS; 10kV surge: FALSE; Channel Type: Unidirectional; Enable Control: TRUE; Isolation Rating (kV): 5; Maximum Data Rate (Mbps): 150; Maximum Propagation Delay (ns): 13; Sub-Family: Isolators; DatasheetVersion: Rev. 1.5; PackageReference: SOIC-16-WB; PackageDescription: 16-Pin Wide Body Plastic Small Outline, Body 10.3 x 7.5 mm, Pitch 1.27 mm; Supplier 1: Digi-Key; Supplier Part Number 1: 336-2093-5-ND; Supplier 2: Mouser; Supplier Part Number 2: 634-SI8642BD-B-IS; AEC-Q100: FALSE; Mounting Technology: Surface Mount; Code_JEDEC: MS-013; ComponentLink1Description: Manufacturer URL; ComponentLink1URL: http://www.silabs.com/; ComponentLink2Description: Datasheet; ComponentLink2URL: http://www.silabs.com/Support%20Documents/TechnicalDocs/Si864x.pdf; ComponentLink3Description: Package Specification; ComponentLink3URL: https://www.silabs.com/Support%20Documents/TechnicalDocs/Si823x.pdf
footprint SLAB-SOIC-16-WB_N (SOIC, 16-Leads, Body 10.3x7.5mm, Pitch 1.27mm, IPC Medium Density)
footprint SLAB-SOIC-16-WB_L (SOIC, 16-Leads, Body 10.3x7.5mm, Pitch 1.27mm, IPC High Density)
footprint SLAB-SOIC-16-WB_M (SOIC, 16-Leads, Body 10.3x7.5mm, Pitch 1.27mm, IPC Low Density)
pins: 1 VDD1 (power) "Side 1 power supply.", 2 GND1 (power) "Side 1 ground.", 3 A1 (in) "Side 1 digital input.", 4 A2 (in) "Side 1 digital input.", 5 A3 (hiz) "Side 1 digital output.", 6 A4 (hiz) "Side 1 digital output.", 7 EN1 (in) "Side 1 active high enable.", 8 GND1 (power) "Side 1 ground.", 9 GND2 (power) "Side 2 ground.", 10 EN2 (in) "Side 2 active high enable.", 11 B4 (in) "Side 2 digital input.", 12 B3 (in) "Side 2 digital input.", 13 B2 (hiz) "Side 2 digital output.", 14 B1 (hiz) "Side 2 digital output.", 15 GND2 (power) "Side 2 ground.", 16 VDD2 (power) "Side 2 power supply."

## Si8642EC-B-IS1
designator U?
Low-Power Quad-Channel Digital Isolator, 150 Mbps, 3.75 kVRMS Isolation Rating, -40 to 125 degC, 16-pin SOIC; Manufacturer: Silicon Labs; PartNumber: Si8642EC-B-IS1; 10kV surge: FALSE; AEC-Q100: TRUE; Channel Type: Unidirectional; Isolation Rating (kV): 3.75; Maximum Data Rate (Mbps): 150; Maximum Propagation Delay (ns): 13; Sub-Family: Isolators; DatasheetVersion: Rev. 1.5; PackageReference: SOIC-16-NB; PackageDescription: 16-Pin Small-Outline Integrated Circuit, Body 9.9 x 3.9 mm, Pitch 1.27 mm; Supplier 1: Digi-Key; Supplier Part Number 1: 336-2094-5-ND; Supplier 2: Mouser; Supplier Part Number 2: 634-SI8642EC-B-IS1; Enable Control: TRUE; Mounting Technology: Surface Mount; Code_JEDEC: MS-012; Code_IPC: J-STD-020; ComponentLink1Description: Manufacturer URL; ComponentLink1URL: http://www.silabs.com/; ComponentLink2Description: Datasheet; ComponentLink2URL: http://www.silabs.com/Support%20Documents/TechnicalDocs/Si864x.pdf; ComponentLink3Description: Package Specification; ComponentLink3URL: http://www.silabs.com/Support%20Documents/TechnicalDocs/si2401.pdf
footprint SLAB-SOIC-16-NB_N (SOIC, 16-Leads, Body 9.9x3.9mm, Pitch 1.27mm, IPC Medium Density)
footprint SLAB-SOIC-16-NB_L (SOIC, 16-Leads, Body 9.9x3.9mm, Pitch 1.27mm, IPC High Density)
footprint SLAB-SOIC-16-NB_M (SOIC, 16-Leads, Body 9.9x3.9mm, Pitch 1.27mm, IPC Low Density)
pins: 1 VDD1 (power) "Side 1 power supply.", 2 GND1 (power) "Side 1 ground.", 3 A1 (in) "Side 1 digital input.", 4 A2 (in) "Side 1 digital input.", 5 A3 (hiz) "Side 1 digital output.", 6 A4 (hiz) "Side 1 digital output.", 7 EN1 (in) "Side 1 active high enable.", 8 GND1 (power) "Side 1 ground.", 9 GND2 (power) "Side 2 ground.", 10 EN2 (in) "Side 2 active high enable.", 11 B4 (in) "Side 2 digital input.", 12 B3 (in) "Side 2 digital input.", 13 B2 (hiz) "Side 2 digital output.", 14 B1 (hiz) "Side 2 digital output.", 15 GND2 (power) "Side 2 ground.", 16 VDD2 (power) "Side 2 power supply."

## Si8642ED-B-IS
designator U?
Low-Power Quad-Channel Digital Isolator, 150 Mbps, 5 kVRMS Isolation Rating, -40 to 125 degC, 16-pin SOIC; Manufacturer: Silicon Labs; PartNumber: Si8642ED-B-IS; 10kV surge: FALSE; AEC-Q100: TRUE; Channel Type: Unidirectional; Isolation Rating (kV): 5; Maximum Data Rate (Mbps): 150; Maximum Propagation Delay (ns): 13; Sub-Family: Isolators; DatasheetVersion: Rev. 1.5; PackageReference: SOIC-16-WB; PackageDescription: 16-Pin Wide Body Plastic Small Outline, Body 10.3 x 7.5 mm, Pitch 1.27 mm; Supplier 1: Digi-Key; Supplier Part Number 1: 336-2095-5-ND; Supplier 2: Mouser; Supplier Part Number 2: 634-SI8642ED-B-IS; Enable Control: TRUE; Mounting Technology: Surface Mount; Code_JEDEC: MS-013; ComponentLink1Description: Manufacturer URL; ComponentLink1URL: http://www.silabs.com/; ComponentLink2Description: Datasheet; ComponentLink2URL: http://www.silabs.com/Support%20Documents/TechnicalDocs/Si864x.pdf; ComponentLink3Description: Package Specification; ComponentLink3URL: https://www.silabs.com/Support%20Documents/TechnicalDocs/Si823x.pdf
footprint SLAB-SOIC-16-WB_N (SOIC, 16-Leads, Body 10.3x7.5mm, Pitch 1.27mm, IPC Medium Density)
footprint SLAB-SOIC-16-WB_L (SOIC, 16-Leads, Body 10.3x7.5mm, Pitch 1.27mm, IPC High Density)
footprint SLAB-SOIC-16-WB_M (SOIC, 16-Leads, Body 10.3x7.5mm, Pitch 1.27mm, IPC Low Density)
pins: 1 VDD1 (power) "Side 1 power supply.", 2 GND1 (power) "Side 1 ground.", 3 A1 (in) "Side 1 digital input.", 4 A2 (in) "Side 1 digital input.", 5 A3 (hiz) "Side 1 digital output.", 6 A4 (hiz) "Side 1 digital output.", 7 EN1 (in) "Side 1 active high enable.", 8 GND1 (power) "Side 1 ground.", 9 GND2 (power) "Side 2 ground.", 10 EN2 (in) "Side 2 active high enable.", 11 B4 (in) "Side 2 digital input.", 12 B3 (in) "Side 2 digital input.", 13 B2 (hiz) "Side 2 digital output.", 14 B1 (hiz) "Side 2 digital output.", 15 GND2 (power) "Side 2 ground.", 16 VDD2 (power) "Side 2 power supply."

## Si8645BA-B-IU
designator U?
Low-Power Quad-Channel Digital Isolator, 150 Mbps, 1 kVRMS Isolation Rating, -40 to 125 degC, 16-pin SOP; Manufacturer: Silicon Labs; PartNumber: Si8645BA-B-IU; 10kV surge: FALSE; AEC-Q100: TRUE; Channel Type: Unidirectional; Isolation Rating (kV): 1; Maximum Data Rate (Mbps): 150; Maximum Propagation Delay (ns): 13; Sub-Family: Isolators; DatasheetVersion: Rev. 1.5; PackageReference: QSOP-16; PackageDescription: 16-Pin Quarter-Size Small Outline Package, Body 4.89 x 3.9 mm, Pitch 0.635 mm; Supplier 1: Digi-Key; Supplier Part Number 1: 336-2096-5-ND; Supplier 2: Mouser; Supplier Part Number 2: 634-SI8645BA-B-IU; Enable Control: FALSE; Mounting Technology: Surface Mount; Code_JEDEC: MO-137; Code_IPC: J-STD-020D; ComponentLink1Description: Manufacturer URL; ComponentLink1URL: http://www.silabs.com/; ComponentLink2Description: Datasheet; ComponentLink2URL: http://www.silabs.com/Support%20Documents/TechnicalDocs/Si864x.pdf; ComponentLink3Description: Package Specification; ComponentLink3URL: http://www.silabs.com/Support%20Documents/TechnicalDocs/Si864x.pdf
footprint SLAB-QSOP-16_N (SOP, 16-Leads, Body 4.9x3.9mm, Pitch 0.635mm, IPC Medium Density)
footprint SLAB-QSOP-16_L (SOP, 16-Leads, Body 4.9x3.9mm, Pitch 0.635mm, IPC High Density)
footprint SLAB-QSOP-16_M (SOP, 16-Leads, Body 4.9x3.9mm, Pitch 0.635mm, IPC Low Density)
pins: 1 VDD1 (power) "Side 1 power supply.", 2 GND1 (power) "Side 1 ground.", 3 A1 (in) "Side 1 digital input.", 4 A2 (in) "Side 1 digital input.", 5 A3 (in) "Side 1 digital input.", 6 A4 (in) "Side 1 digital input.", 7 NC "No Connect", 8 GND1 (power) "Side 1 ground.", 9 GND2 (power) "Side 2 ground.", 10 NC "No Connect", 11 B4 (out) "Side 2 digital output.", 12 B3 (out) "Side 2 digital output.", 13 B2 (out) "Side 2 digital output.", 14 B1 (out) "Side 2 digital output.", 15 GND2 (power) "Side 2 ground.", 16 VDD2 (power) "Side 2 power supply."

## Si8645BA-C-IU
designator U?
Low-Power Quad-Channel Digital Isolator, 150 Mbps, 1 kVRMS Isolation Rating, -40 to 125 degC, 16-pin SOP; Manufacturer: Silicon Labs; PartNumber: Si8645BA-C-IU; Note: 0; 10kV surge: FALSE; AEC-Q100: TRUE; Channel Type: Unidirectional; Isolation Rating (kV): 1; Maximum Data Rate (Mbps): 150; Maximum Propagation Delay (ns): 13; Sub-Family: Isolators; DatasheetVersion: Rev. 1.5; PackageReference: QSOP-16; PackageDescription: 16-Pin Quarter-Size Small Outline Package, Body 4.89 x 3.9 mm, Pitch 0.635 mm; Enable Control: FALSE; Mounting Technology: Surface Mount; Code_JEDEC: MO-137; Code_IPC: J-STD-020D; ComponentLink1Description: Manufacturer URL; ComponentLink1URL: http://www.silabs.com/; ComponentLink2Description: Datasheet; ComponentLink2URL: http://www.silabs.com/Support%20Documents/TechnicalDocs/Si864x.pdf; ComponentLink3Description: Package Specification; ComponentLink3URL: http://www.silabs.com/Support%20Documents/TechnicalDocs/Si864x.pdf
footprint SLAB-QSOP-16_N (SOP, 16-Leads, Body 4.9x3.9mm, Pitch 0.635mm, IPC Medium Density)
footprint SLAB-QSOP-16_L (SOP, 16-Leads, Body 4.9x3.9mm, Pitch 0.635mm, IPC High Density)
footprint SLAB-QSOP-16_M (SOP, 16-Leads, Body 4.9x3.9mm, Pitch 0.635mm, IPC Low Density)
pins: 1 VDD1 (power) "Side 1 power supply.", 2 GND1 (power) "Side 1 ground.", 3 A1 (in) "Side 1 digital input.", 4 A2 (in) "Side 1 digital input.", 5 A3 (in) "Side 1 digital input.", 6 A4 (in) "Side 1 digital input.", 7 NC "No Connect", 8 GND1 (power) "Side 1 ground.", 9 GND2 (power) "Side 2 ground.", 10 NC "No Connect", 11 B4 (out) "Side 2 digital output.", 12 B3 (out) "Side 2 digital output.", 13 B2 (out) "Side 2 digital output.", 14 B1 (out) "Side 2 digital output.", 15 GND2 (power) "Side 2 ground.", 16 VDD2 (power) "Side 2 power supply."

## Si8645BC-B-IS1
designator U?
Low-Power Quad-Channel Digital Isolator, 150 Mbps, 3.75 kVRMS Isolation Rating, -40 to 125 degC, 16-pin SOIC; Manufacturer: Silicon Labs; PartNumber: Si8645BC-B-IS1; 10kV surge: FALSE; AEC-Q100: TRUE; Channel Type: Unidirectional; Isolation Rating (kV): 3.75; Maximum Data Rate (Mbps): 150; Maximum Propagation Delay (ns): 13; Sub-Family: Isolators; DatasheetVersion: Rev. 1.5; PackageReference: SOIC-16-NB; PackageDescription: 16-Pin Small-Outline Integrated Circuit, Body 9.9 x 3.9 mm, Pitch 1.27 mm; Supplier 1: Digi-Key; Supplier Part Number 1: 336-2097-5-ND; Supplier 2: Mouser; Supplier Part Number 2: 634-SI8645BC-B-IS1; Enable Control: FALSE; Mounting Technology: Surface Mount; Code_JEDEC: MS-012; Code_IPC: J-STD-020; ComponentLink1Description: Manufacturer URL; ComponentLink1URL: http://www.silabs.com/; ComponentLink2Description: Datasheet; ComponentLink2URL: http://www.silabs.com/Support%20Documents/TechnicalDocs/Si864x.pdf; ComponentLink3Description: Package Specification; ComponentLink3URL: http://www.silabs.com/Support%20Documents/TechnicalDocs/si2401.pdf
footprint SLAB-SOIC-16-NB_N (SOIC, 16-Leads, Body 9.9x3.9mm, Pitch 1.27mm, IPC Medium Density)
footprint SLAB-SOIC-16-NB_L (SOIC, 16-Leads, Body 9.9x3.9mm, Pitch 1.27mm, IPC High Density)
footprint SLAB-SOIC-16-NB_M (SOIC, 16-Leads, Body 9.9x3.9mm, Pitch 1.27mm, IPC Low Density)
pins: 1 VDD1 (power) "Side 1 power supply.", 2 GND1 (power) "Side 1 ground.", 3 A1 (in) "Side 1 digital input.", 4 A2 (in) "Side 1 digital input.", 5 A3 (in) "Side 1 digital input.", 6 A4 (in) "Side 1 digital input.", 7 NC "No Connect", 8 GND1 (power) "Side 1 ground.", 9 GND2 (power) "Side 2 ground.", 10 NC "No Connect", 11 B4 (out) "Side 2 digital output.", 12 B3 (out) "Side 2 digital output.", 13 B2 (out) "Side 2 digital output.", 14 B1 (out) "Side 2 digital output.", 15 GND2 (power) "Side 2 ground.", 16 VDD2 (power) "Side 2 power supply."

## Si8645BD-B-IS
designator U?
Low-Power Quad-Channel Digital Isolator, 150 Mbps, 5 kVRMS Isolation Rating, -40 to 125 degC, 16-pin SOIC; Manufacturer: Silicon Labs; PartNumber: Si8645BD-B-IS; 10kV surge: FALSE; AEC-Q100: TRUE; Channel Type: Unidirectional; Isolation Rating (kV): 5; Maximum Data Rate (Mbps): 150; Maximum Propagation Delay (ns): 13; Sub-Family: Isolators; DatasheetVersion: Rev. 1.5; PackageReference: SOIC-16-WB; PackageDescription: 16-Pin Wide Body Plastic Small Outline, Body 10.3 x 7.5 mm, Pitch 1.27 mm; Supplier 1: Digi-Key; Supplier Part Number 1: 336-2098-5-ND; Supplier 2: Mouser; Supplier Part Number 2: 634-SI8645BD-B-IS; Enable Control: FALSE; Mounting Technology: Surface Mount; Code_JEDEC: MS-013; ComponentLink1Description: Manufacturer URL; ComponentLink1URL: http://www.silabs.com/; ComponentLink2Description: Datasheet; ComponentLink2URL: http://www.silabs.com/Support%20Documents/TechnicalDocs/Si864x.pdf; ComponentLink3Description: Package Specification; ComponentLink3URL: https://www.silabs.com/Support%20Documents/TechnicalDocs/Si823x.pdf
footprint SLAB-SOIC-16-WB_N (SOIC, 16-Leads, Body 10.3x7.5mm, Pitch 1.27mm, IPC Medium Density)
footprint SLAB-SOIC-16-WB_L (SOIC, 16-Leads, Body 10.3x7.5mm, Pitch 1.27mm, IPC High Density)
footprint SLAB-SOIC-16-WB_M (SOIC, 16-Leads, Body 10.3x7.5mm, Pitch 1.27mm, IPC Low Density)
pins: 1 VDD1 (power) "Side 1 power supply.", 2 GND1 (power) "Side 1 ground.", 3 A1 (in) "Side 1 digital input.", 4 A2 (in) "Side 1 digital input.", 5 A3 (in) "Side 1 digital input.", 6 A4 (in) "Side 1 digital input.", 7 NC "No Connect", 8 GND1 (power) "Side 1 ground.", 9 GND2 (power) "Side 2 ground.", 10 NC "No Connect", 11 B4 (out) "Side 2 digital output.", 12 B3 (out) "Side 2 digital output.", 13 B2 (out) "Side 2 digital output.", 14 B1 (out) "Side 2 digital output.", 15 GND2 (power) "Side 2 ground.", 16 VDD2 (power) "Side 2 power supply."

## Si8650BC-B-IS1
designator U?
Low Power Five-Channel Digital Isolator, 150 Mbps, 3.75 kVRMS Isolation Rating, -40 to 125 degC, 16-pin SOIC; Manufacturer: Silicon Labs; PartNumber: Si8650BC-B-IS1; 10kV surge: FALSE; Channel Type: Unidirectional; Enable Control: TRUE; Isolation Rating (kV): 3.75; Maximum Data Rate (Mbps): 150; Maximum Propagation Delay (ns): 13; Sub-Family: Isolators; DatasheetVersion: Rev. 1.6; PackageReference: SOIC-16-NB; PackageDescription: 16-Pin Small-Outline Integrated Circuit, Body 9.9 x 3.9 mm, Pitch 1.27 mm; Supplier 1: Digi-Key; Supplier Part Number 1: 336-2099-5-ND; Supplier 2: Mouser; Supplier Part Number 2: 634-SI8650BC-B-IS1; AEC-Q100: FALSE; Mounting Technology: Surface Mount; Code_JEDEC: MS-012; Code_IPC: J-STD-020; ComponentLink1Description: Manufacturer URL; ComponentLink1URL: http://www.silabs.com/; ComponentLink2Description: Datasheet; ComponentLink2URL: http://www.silabs.com/Support%20Documents/TechnicalDocs/Si865x.pdf; ComponentLink3Description: Package Specification; ComponentLink3URL: http://www.silabs.com/Support%20Documents/TechnicalDocs/si2401.pdf
footprint SLAB-SOIC-16-NB_N (SOIC, 16-Leads, Body 9.9x3.9mm, Pitch 1.27mm, IPC Medium Density)
footprint SLAB-SOIC-16-NB_L (SOIC, 16-Leads, Body 9.9x3.9mm, Pitch 1.27mm, IPC High Density)
footprint SLAB-SOIC-16-NB_M (SOIC, 16-Leads, Body 9.9x3.9mm, Pitch 1.27mm, IPC Low Density)
pins: 1 VDD1 (power) "Side 1 power supply.", 2 A1 (in) "Side 1 digital input.", 3 A2 (in) "Side 1 digital input.", 4 A3 (in) "Side 1 digital input.", 5 A4 (in) "Side 1 digital input.", 6 A5 (in) "Side 1 digital input.", 7 NC "No connection.", 8 GND1 (power) "Side 1 ground.", 9 GND2 (power) "Side 2 ground.", 10 EN2/NC (in) "Side 2 active high enable.No connection.", 11 B5 (hiz) "Side 2 digital output.", 12 B4 (hiz) "Side 2 digital  output.", 13 B3 (hiz) "Side 2 digital output.", 14 B2 (hiz) "Side 2 digital output.", 15 B1 (hiz) "Side 2 digital output.", 16 VDD2 (power) "Side 2 power supply."